# Altium schematic symbol library Conn_26pin.SchLib: 1 symbol
Pins are listed as number, name and electrical type; pins without a type are passive.

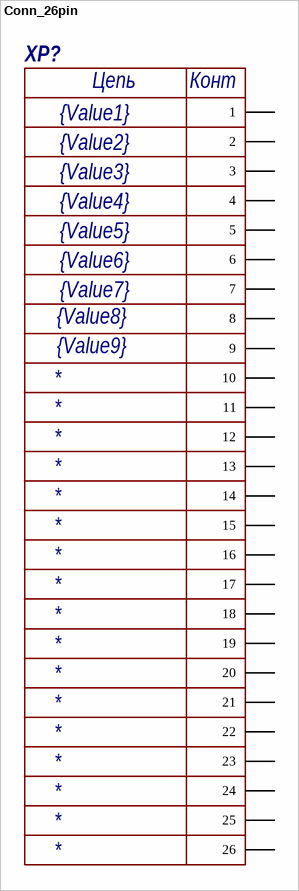
[diagram p0: symbol Conn_26pin]

## Conn_26pin
designator XP?  Pin1: {Value1}  Pin2: {Value2}  Pin3: {Value3}  Pin4: {Value4}  Pin5: {Value5}  Pin6: {Value6}  Pin7: {Value7}  Pin8: {Value8}  Pin9: {Value9}
Pin26: *; Pin15: *; Pin25: *; Pin24: *; Pin23: *; Pin22: *; Pin21: *; Pin20: *; Pin19: *; Pin18: *; Pin17: *; Pin16: *; Pin14: *; Pin13: *; Pin12: *; Pin11: *; Pin10: *
pins: 1, 2, 3, 4, 5, 6, 7, 8, 9, 10, 11, 12, 13, 14, 15, 16, 17, 18, 19, 20, 21, 22, 23, 24, 25, 26
text: Цепь; Конт